# Altium schematic symbol library Resistors.SchLib: 84 symbols
Pins are listed as number, name and electrical type; pins without a type are passive.

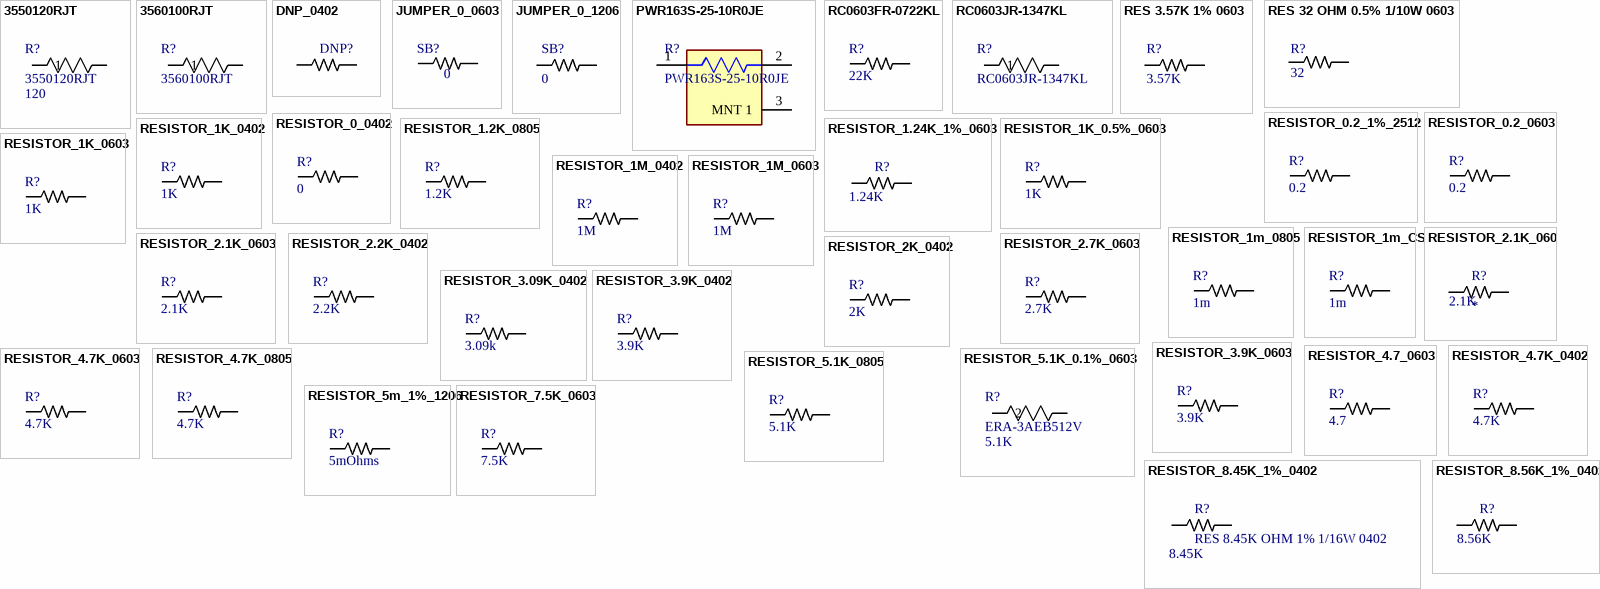
[diagram p0: symbols 3550120RJT to RESISTOR_8.56K_1%_0402]

## 3550120RJT
designator R?  value 120
RES 3550 120R 5%; Mfr_Name: TE Connectivity; Copyright: Copyright (C) 2022 Ultra Librarian. All rights reserved.; Manufacturer_Part_Number: 3550120RJT; RefDes: RefDes; Type: DEV; Supplier 1: Mouser; Supplier Part Number 1: 279-3550120RJT
footprint RESISTOR_0402 (Resistor 0402)
pins: 1, 2

## 3560100RJT
designator R?
RES 35601 100R 6W 5%; Mfr_Name: TE Connectivity; Manufacturer_Part_Number: 3550120RJT; Copyright: Copyright (C) 2022 Ultra Librarian. All rights reserved.; RefDes: RefDes; Type: DEV; Supplier 1: Newark; Supplier Part Number 1: 34AH4272
footprint RES_3550_TEC
pins: 1, 2

## DNP_0402
designator DNP?, comment DNP  (value not drawn)
Do Not Populate 0402
footprint RESISTOR_0402 (Resistor 0402)
pins: 1, 2

## JUMPER_0_0603
designator SB?, comment Value  (Ohms): 0  (hidden comment: 0 Ohm Jumper No Fit)
0 Ohm Jumper No Fit for Solder Bridge; Made By: Robert Pafford; ComponentLink1Description: Digikey; ComponentLink1URL: https://www.digikey.com/en/products/detail/koa-speer-electronics-inc/RK73B1JTTD101J/9844701
footprint RESISTOR_0603 (Resistor 0603)
pins: 1, 2

## JUMPER_0_1206
designator SB?  value 0  (hidden comment: *)
JUMPER 0OHM 1206
footprint RESISTOR_1206
pins: 1, 2

## PWR163S-25-10R0JE
designator R?
RES SMD 10 OHM 5% 25W DPAK; Mfr_Name: Bourns Electronics; Copyright: Copyright (C) 2023 Ultra Librarian. All rights reserved.; Manufacturer_Part_Number: PWR163S-25-10R0JE; Supplier 1: Digi-Key; Supplier Part Number 1: 118-PWR163S-25-10R0JECT-ND
footprint FP-PWR163-MFG
pins: 1, 2, 3 MNT 1

## RC0603FR-0722KL
designator R?, comment Value  (Ohms): 22K  (hidden comment: 3.09k Ohm 1% 1/16W)
RES 22K OHM 1% 1/10W 0603; Tolerance: +/- 1%; Made By: Robert Pafford; Wattage: 1/16W; Supplier 1: Digikey; Supplier Part Number 1: 13-AC0402FR-073K09LCT-ND
footprint RESISTOR_0603 (Resistor 0603)
pins: 1, 2

## RC0603JR-1347KL
designator R?
47kohm 0603 1/10w; Mfr_Name: Yageo; Copyright: Copyright (C) 2024 Ultra Librarian. All rights reserved.; Manufacturer_Part_Number: RC0603JR-1347KL; RefDes: RefDes; Type: DEV; Supplier 1: Mouser; Supplier Part Number 1: 603-RC0603JR-1347KL
footprint RESISTOR_0603 (Resistor 0603)
pins: 1, 2

## RES 3.57K 1% 0603
designator R?, comment 3.57K
3.57 kOhms ±1% 0.1W, 1/10W Chip Resistor 0603 (1608 Metric) Automotive AEC-Q200 Thick Film
footprint CAPACITOR_0603 (CAPACITOR 0603)
pins: 1, 2

## RES 32 OHM 0.5% 1/10W 0603
designator R?, comment value 32  (hidden comment: RN73R1JTTD32R0D25)
32 Ohms ±0.5% 0.125W, 1/8W Chip Resistor 0603 (1608 Metric) Automotive AEC-Q200, Moisture Resistant Thin Film
footprint RESISTOR_0603 (Resistor 0603)
pins: 1, 2

## RESISTOR_0.2_1%_2512
designator R?, comment Value  (Ohms): 0.2  (hidden comment: 0.2 Ohm 1% 2W 2512)
RES 0.2 OHM 1% 2W 2512; Tolerance: +/- 1%; Made By: Dylan Trainor; ComponentLink1Description: Datasheet; ComponentLink1URL: https://www.bourns.com/docs/product-datasheets/CRxxxxx.pdf; Wattage: 2W; Supplier: Stackpole; Digikey Part Numer: CR0603-JW-104ELFTR-ND; Supplier 1: Avnet; Supplier Part Number 1: CSRN2512FKR200
footprint RESISTOR_2512
pins: 1, 2

## RESISTOR_0.2_0603
designator R?, comment Value  (Ohms): 0.2  (hidden comment: 0.2 Ohm 5% 1/8W)
RES 0.2 OHM 5% 1/8W 0603; Tolerance: +/- 5%; Made By: Robert Pafford; ComponentLink1Description: Datasheet; ComponentLink1URL: https://www.bourns.com/docs/product-datasheets/CRxxxxx.pdf; Wattage: 1/8W; Supplier: Digikey; Digikey Part Numer: CR0603-JW-104ELFTR-ND; Supplier 1: Mouser; Supplier Part Number 1: 279-RLP73N1JR20JTD
footprint RESISTOR_0603 (Resistor 0603)
pins: 1, 2

## RESISTOR_0_0402
designator R?, comment Value  (Ohms): 0  (hidden comment: 0 Ohm 1% 1/16W)
RES 0 OHM 1% 1/16W 0402; Tolerance: +/- 1%; Made By: Robert Pafford; Wattage: 1/16W; Supplier 1: Digikey; Supplier Part Number 1: 13-AC0402FR-070RLCT-ND
footprint RESISTOR_0402 (Resistor 0402)
pins: 1, 2

## RESISTOR_1.2K_0805
designator R?, comment Value  (Ohms): 1.2K  (hidden comment: 1.2k Ohm 5% 1/2W)
RES 1.2k OHM 5% 1/2W 0805; Tolerance: +/- 5%; Made By: Robert Pafford; Wattage: 1/2W; Supplier 1: Digi-Key; Supplier Part Number 1: P1.2KADCT-ND
footprint RESISTOR_0805
pins: 1, 2

## RESISTOR_1.24K_1%_0603
designator R?, comment Value (Ohms): 1.24K  (hidden comment: RES 1.24K OHM 1% 1/10W 0603)
1.24 kOhms ±1% 0.1W, 1/10W Chip Resistor 0603 (1608 Metric) Automotive AEC-Q200 Thick Film; Tolerance: +/- 1%; Wattage: 1/10W; Created By: John Ulm; Verified By: *; Supplier 1: Digi-Key; Supplier Part Number 1: RMCF0603FT1K24CT-ND
footprint RESISTOR_0603 (Resistor 0603)
pins: 1, 2

## RESISTOR_1K_0.5%_0603
designator R?, comment Value  (Ohms): 1K  (hidden comment: 1k Ohm 5% 1/10W)
RES 1k OHM 0.5% 1/10W 0603; Tolerance: +/- 0.5%; Made By: Robert Pafford; Wattage: 1/10W; Supplier: Digikey; Digikey Part Numer: CR0603-JW-104ELFTR-ND; Supplier 1: Digi-Key; Supplier Part Number 1: 749-1693-1-ND
footprint RESISTOR_0603 (Resistor 0603)
pins: 1, 2

## RESISTOR_1K_0402
designator R?, comment Value  (Ohms): 1K  (hidden comment: 1k Ohm 1% 1/16W)
RES 1k OHM 1% 1/16W 0402; Tolerance: +/- 1%; Made By: Robert Pafford; Wattage: 1/16W; Supplier: Digikey; Digikey Part Numer: CR0603-JW-104ELFTR-ND; Supplier 1: Digi-Key; Supplier Part Number 1: 13-AC0402FR-131KLCT-ND
footprint RESISTOR_0402 (Resistor 0402)
pins: 1, 2

## RESISTOR_1K_0603
designator R?, comment Value  (Ohms): 1K  (hidden comment: 1k Ohm 5% 1/8W)
RES 1k OHM 5% 1/8W 0603; Tolerance: +/- 5%; Made By: Robert Pafford; ComponentLink1Description: Datasheet; ComponentLink1URL: https://www.bourns.com/docs/product-datasheets/CRxxxxx.pdf; Wattage: 1/8W; Supplier: Digikey; Digikey Part Numer: CR0603-JW-104ELFTR-ND; Supplier 1: Digi-Key; Supplier Part Number 1: 2019-RK73B1JTTD102JCT-ND
footprint RESISTOR_0603 (Resistor 0603)
pins: 1, 2

## RESISTOR_1M_0402
designator R?, comment Value  (Ohms): 1M  (hidden comment: 1M Ohm 1% 1/16W)
RES 1M OHM 1% 1/16W 0402; Tolerance: +/- 1%; Made By: Robert Pafford; Wattage: 1/16W; Supplier 1: Digikey; Supplier Part Number 1: YAG3450CT-ND
footprint RESISTOR_0402 (Resistor 0402)
pins: 1, 2

## RESISTOR_1M_0603
designator R?, comment 1M
RES 1M OHM 1/8W 0603; Tolerance: +/- 5%; Made By: Robert Pafford; ComponentLink1Description: Datasheet; ComponentLink1URL: https://www.bourns.com/docs/product-datasheets/CRxxxxx.pdf; Wattage: 1/8W; Supplier: Digikey; Digikey Part Numer: CR0603-JW-104ELFTR-ND; Supplier 1: Digi-Key; Supplier Part Number 1: RMCF0603JT1M00CT-ND; Value  (Ohms): 1M
footprint RESISTOR_0603 (Resistor 0603)
pins: 1, 2

## RESISTOR_1m_0805
designator R?, comment Value  (Ohms): 1m  (hidden comment: 1.2k Ohm 5% 1/8W)
RES 1m OHM 1% 1W 0805; Tolerance: +/- 1%; Made By: Flip B; ComponentLink1Description: Datasheet; ComponentLink1URL: https://www.bourns.com/docs/product-datasheets/CRxxxxx.pdf; Wattage: 1W; Supplier 1: Digi-Key; Supplier Part Number 1: 738-CSSH0805FT1L00CT-ND
footprint RESISTOR_0805
pins: 1, 2

## RESISTOR_1m_CS
designator R?, comment Value  (Ohms): 1m  (hidden comment: 1m Ohm 5% 8W)
RES 1m OHM 1% 8W Current Sense; Tolerance: +/- 1%; Made By: Flip B; ComponentLink1Description: Datasheet; ComponentLink1URL: https://www.bourns.com/docs/product-datasheets/css2h-3920.pdf; Wattage: 8W; Supplier 1: Digi-Key; Supplier Part Number 1: CSS2H-3920R-1L00FCT-ND
footprint RES_CSS2H-3920 (Current Sense Resistor 1mOhm 8W)
pins: 1, 2

## RESISTOR_2.1K_060
designator R?
RES SMD 2.1K OHM 0.1% 1/8W 0805; Tolerance: +/- .1%; Supplier 1: Digi-Key; Supplier Part Number 1: YAG1852CT-ND; Created By: John Ulm; Wattage: 1/8 W
footprint RESISTOR_0603 (Resistor 0603)
pins: 1, 2
text: 2.1K

## RESISTOR_2.1K_0603
designator R?, comment Value  (Ohms): 2.1K  (hidden comment: 2.1k Ohm 5% 1/8W)
RES 2.1k OHM 5% 1/8W 0603; Tolerance: +/- 5%; Made By: Robert Pafford; ComponentLink1Description: Datasheet; ComponentLink1URL: https://www.bourns.com/docs/product-datasheets/CRxxxxx.pdf; Wattage: 1/8W; Supplier: Digikey; Digikey Part Numer: CR0603-JW-104ELFTR-ND; Supplier 1: Digi-Key; Supplier Part Number 1: YAG1852CT-ND
footprint RESISTOR_0603 (Resistor 0603)
pins: 1, 2

## RESISTOR_2.2K_0402
designator R?, comment Value  (Ohms): 2.2K  (hidden comment: 2.2k Ohm 1% 1/16W)
RES 2.2K OHM 1% 1/16W 0402; Tolerance: +/- 1%; Made By: Megan McCabe; Wattage: 1/16W; Supplier 1: Digikey; Supplier Part Number 1: 311-2.20KLRCT-ND
footprint RESISTOR_0402 (Resistor 0402)
pins: 1, 2

## RESISTOR_2.7K_0603
designator R?, comment Value  (Ohms): 2.7K  (hidden comment: 2.7K Ohm 1% 1/10W)
RES 2.7k OHM 1% 1/10W 0603; Tolerance: +/- 1%; Made By: Robert Pafford; Wattage: 1/10W; Supplier 1: Digi-Key; Supplier Part Number 1: 311-2.70KHRCT-ND
footprint RESISTOR_0603 (Resistor 0603)
pins: 1, 2

## RESISTOR_2K_0402
designator R?, comment Value  (Ohms): 2K  (hidden comment: 2k Ohm 1% 1/16W)
RES 2k OHM 1% 1/16W 0402; Tolerance: +/- 1%; Made By: Flip B; Wattage: 1/16W; Supplier 1: Digi-Key; Supplier Part Number 1: 311-2KLRCT-ND
footprint RESISTOR_0402 (Resistor 0402)
pins: 1, 2

## RESISTOR_3.09K_0402
designator R?, comment Value  (Ohms): 3.09k  (hidden comment: 3.09k Ohm 1% 1/16W)
RES 3.09k OHM 1% 1/16W 0402; Tolerance: +/- 1%; Made By: Robert Pafford; Wattage: 1/16W; Supplier 1: Digikey; Supplier Part Number 1: 13-AC0402FR-073K09LCT-ND
footprint RESISTOR_0402 (Resistor 0402)
pins: 1, 2

## RESISTOR_3.9K_0402
designator R?, comment Value  (Ohms): 3.9K  (hidden comment: 3.9k Ohm 1% 1/16W)
RES 3.9k OHM 1% 1/16W 0402; Tolerance: +/- 1%; Made By: Robert Pafford; Wattage: 1/16W; Supplier 1: Digikey; Supplier Part Number 1: YAG3484CT-ND
footprint RESISTOR_0402 (Resistor 0402)
pins: 1, 2

## RESISTOR_3.9K_0603
designator R?, comment Value  (Ohms): 3.9K  (hidden comment: 3.9k Ohm 5% 1/10W)
RES 3.9k OHM 1% 1/10W 0603; Tolerance: +/- 1%; Made By: Robert Pafford; Wattage: 1/10W; Supplier 1: Digi-Key; Supplier Part Number 1: P3.90KHCT-ND
footprint RESISTOR_0603 (Resistor 0603)
pins: 1, 2

## RESISTOR_4.7_0603
designator R?, comment Value  (Ohms): 4.7  (hidden comment: 4.7 Ohm 5% 1/8W)
RES 4.7 OHM 5% 1/8W 0603; Tolerance: +/- 5%; Made By: Robert Pafford; Wattage: 1/8W; Supplier: Digikey; Digikey Part Numer: CR0603-JW-104ELFTR-ND; Supplier 1: Digi-Key; Supplier Part Number 1: 2019-RK73B1JTTD4R7JCT-ND
footprint RESISTOR_0603 (Resistor 0603)
pins: 1, 2

## RESISTOR_4.7K_0402
designator R?, comment Value  (Ohms): 4.7K  (hidden comment: 4.7k Ohm 1% 1/16W)
RES 4.7k OHM 1% 1/16W 0402; Tolerance: +/- 1%; Made By: Robert Pafford; Wattage: 1/16W; Supplier 1: Digi-Key; Supplier Part Number 1: YAG3497CT-ND
footprint RESISTOR_0402 (Resistor 0402)
pins: 1, 2

## RESISTOR_4.7K_0603
designator R?, comment Value  (Ohms): 4.7K  (hidden comment: 4.7k Ohm 5% 1/10W)
RES 4.7k OHM 5% 1/10W 0603; Tolerance: +/- 5%; Made By: Robert Pafford; Wattage: 1/10W; Supplier: Digikey; Digikey Part Numer: CR0603-JW-104ELFTR-ND; Supplier 1: Digi-Key; Supplier Part Number 1: RMCF0603JT4K70CT-ND
footprint RESISTOR_0603 (Resistor 0603)
pins: 1, 2

## RESISTOR_4.7K_0805
designator R?, comment Value  (Ohms): 4.7K  (hidden comment: 4.7k Ohm 5% 1/8W)
RES 4.7k OHM 5% 1/8W 0805; Tolerance: +/- 5%; Made By: Robert Pafford; ComponentLink1Description: Datasheet; Wattage: 1/8W; Supplier: Digikey; Digikey Part Numer: CR0603-JW-104ELFTR-ND; Supplier 1: Mouser; Supplier Part Number 1: 652-CR0603-JW-104ELF
footprint RESISTOR_0805
pins: 1, 2

## RESISTOR_5.1K_0.1%_0603
designator R?, comment ERA-3AEB512V  value 5.1K
5.1 kOhms ±0.1% 0.1W, 1/10W Chip Resistor 0603 (1608 Metric) Automotive AEC-Q200 Thin Film; Mfr_Name: Panasonic; Manufacturer_Part_Number: ERA-3AEB512V_2; Copyright: Copyright (C) 2023 Ultra Librarian. All rights reserved.; RefDes: RefDes; Type: DEV; Supplier 1: Mouser; Supplier Part Number 1: 667-ERA-3AEB512V
footprint RC0603N_PAN
pins: 1, 2

## RESISTOR_5.1K_0805
designator R?, comment Value  (Ohms): 5.1K  (hidden comment: 5.1k Ohm 1% 1/8W)
RES 5.1k OHM 1% 1/8W 0805; Tolerance: +/- 5%; Made By: Dylan Trainor; ComponentLink1Description: Datasheet; ComponentLink1URL: https://www.bourns.com/docs/product-datasheets/CRxxxxx.pdf; Wattage: 1/8W; Supplier: Digikey; Digikey Part Numer: CR0603-JW-104ELFTR-ND; Supplier 1: Newark; Supplier Part Number 1: 53W4863
footprint RESISTOR_0805
pins: 1, 2

## RESISTOR_5m_1%_1206
designator R?, comment Value  (Ohms): 5mOhms  (hidden comment: 0.005 OHM 1% 1W)
5 mOhms ±1% 1W Chip Resistor 1206 (3216 Metric) Anti-Sulfur, Current Sense, Flame Retardant Coating, Moisture Resistant, Safety Metal Foil; Tolerance: +/- 1%; Made By: Andrew Lin; ComponentLink1Description: Datasheet; ComponentLink1URL: https://www.bourns.com/docs/product-datasheets/CRxxxxx.pdf; Wattage: 1W; Supplier: Digikey; Digikey Part Numer: CR0603-JW-104ELFTR-ND; Supplier 1: Digi-Key; Supplier Part Number 1: 4463-D1WEL1206MR005F-T5CT-ND
footprint RESISTOR_0603 (Resistor 0603)
pins: 1, 2

## RESISTOR_7.5K_0603
designator R?, comment Value  (Ohms): 7.5K  (hidden comment: 7.5k Ohm 5% 1/10W)
RES 7.5k OHM 5% 1/10W 0603; Tolerance: +/- 5%; Wattage: 1/8W; Made By: Dylan Trainor; ComponentLink1Description: Datasheet; ComponentLink1URL: https://www.bourns.com/docs/product-datasheets/CRxxxxx.pdf; Supplier: Digikey; Digikey Part Numer: CR0603-JW-104ELFTR-ND; Supplier 1: Arrow Electronics; Supplier Part Number 1: CRCW06037K50JNEA
footprint RESISTOR_0603 (Resistor 0603)
pins: 1, 2

## RESISTOR_8.45K_1%_0402
designator R?, comment RES 8.45K OHM 1% 1/16W 0402  Value (Ohms): 8.45K
Tolerance: +/- 1%; Made By: John Ulm; Supplier 1: Digi-Key; Supplier Part Number 1: YAG3254CT-ND; Supplier 2: Digi-Key; Supplier Part Number 2: YAG3254DKR-ND; Supplier 3: Digi-Key; Supplier Part Number 3: YAG3254TR-ND; Wattage: 1/16W
footprint RESISTOR_0402 (Resistor 0402)
pins: 1, 2

## RESISTOR_8.56K_1%_0402
designator R?, comment Value (Ohms): 8.56K  (hidden comment: RES 8.56K OHM 1% 1/16W 0402)
8.56 kOhms ±1% 0.063W, 1/16W Chip Resistor 0402 (1005 Metric) Automotive AEC-Q200, Moisture Resistant Metal Film; Tolerance: +/- 1%; Made By: John Ulm; Supplier 1: Digi-Key; Supplier Part Number 1: 2019-RN73H1ETTP8561F50CT-ND; Wattage: 1/16W; Verified By: *
footprint RESISTOR_0402 (Resistor 0402)
pins: 1, 2

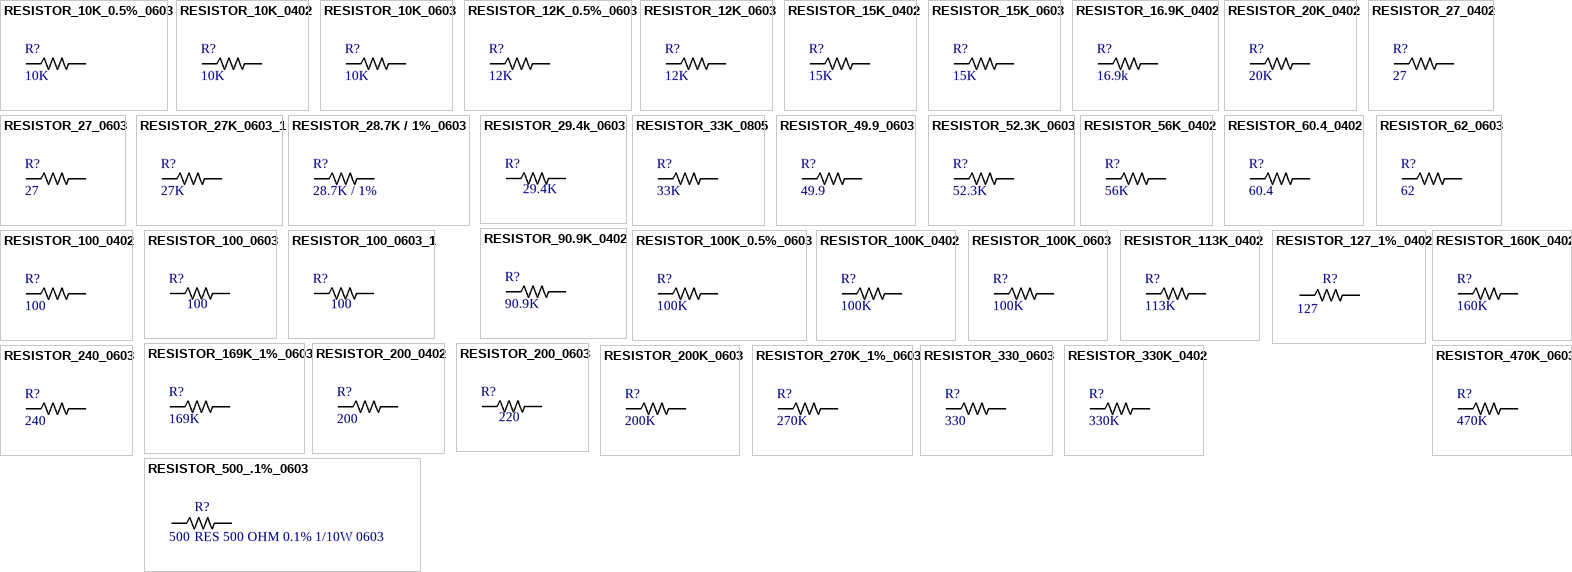
[diagram p1: symbols RESISTOR_10K_0.5%_0603 to RESISTOR_500_.1%_0603]

## RESISTOR_10K_0.5%_0603
designator R?, comment Value  (Ohms): 10K  (hidden comment: 10k Ohm 0.5% 1/10W)
RES 10k OHM 0.5% 1/10W 0603; Tolerance: +/- 0.5%; Made By: Robert Pafford; Wattage: 1/10W; Supplier: Digikey; Digikey Part Numer: CR0603-JW-104ELFTR-ND; Supplier 1: Digi-Key; Supplier Part Number 1: 749-1695-1-ND
footprint RESISTOR_0603 (Resistor 0603)
pins: 1, 2

## RESISTOR_10K_0402
designator R?, comment Value  (Ohms): 10K  (hidden comment: 10k Ohm 1% 1/16W)
RES 10k OHM 1% 1/16W 0402; Tolerance: +/- 1%; Made By: Robert Pafford; Wattage: 1/16W; Supplier: Digikey; Digikey Part Numer: CR0603-JW-104ELFTR-ND; Supplier 1: Digi-Key; Supplier Part Number 1: YAG3436CT-ND
footprint RESISTOR_0402 (Resistor 0402)
pins: 1, 2

## RESISTOR_10K_0603
designator R?, comment Value  (Ohms): 10K  (hidden comment: 10k Ohm 5% 1/10W)
RES 10k OHM 5% 1/10W 0603; Tolerance: +/- 5%; Wattage: 1/8W; Made By: Robert Pafford; ComponentLink1Description: Datasheet; ComponentLink1URL: https://www.bourns.com/docs/product-datasheets/CRxxxxx.pdf; Supplier: Digikey; Digikey Part Numer: CR0603-JW-104ELFTR-ND; Supplier 1: Digi-Key; Supplier Part Number 1: 2019-RK73B1JTTD103JCT-ND
footprint RESISTOR_0603 (Resistor 0603)
pins: 1, 2

## RESISTOR_12K_0.5%_0603
designator R?, comment Value  (Ohms): 12K  (hidden comment: 12k Ohm 0.5% 1/10W)
RES 12k OHM 0.5% 1/10W 0603; Tolerance: +/- 0.5%; Wattage: 1/8W; Made By: John Ulm; ComponentLink1Description: Datasheet; ComponentLink1URL: https://www.bourns.com/docs/product-datasheets/CRxxxxx.pdf; Supplier: Digikey; Digikey Part Numer: CR0603-JW-104ELFTR-ND; Supplier 1: Digi-Key; Supplier Part Number 1: 311-2415-1-ND
footprint RESISTOR_0603 (Resistor 0603)
pins: 1, 2

## RESISTOR_12K_0603
designator R?, comment Value  (Ohms): 12K  (hidden comment: 12k Ohm 5% 1/10W)
RES 12k OHM 5% 1/10W 0603; Tolerance: +/- 5%; Wattage: 1/8W; Made By: Robert Pafford; ComponentLink1Description: Datasheet; ComponentLink1URL: https://www.bourns.com/docs/product-datasheets/CRxxxxx.pdf; Supplier: Digikey; Digikey Part Numer: CR0603-JW-104ELFTR-ND; Supplier 1: Avnet; Supplier Part Number 1: RMCF0603JT12K0
footprint RESISTOR_0603 (Resistor 0603)
pins: 1, 2

## RESISTOR_15K_0402
designator R?, comment Value  (Ohms): 15K  (hidden comment: 15k Ohm 1% 1/16W)
RES 15k OHM 1% 1/16W 0402; Tolerance: +/- 1%; Made By: Robert Pafford; Wattage: 1/16W; Supplier 1: Digikey; Supplier Part Number 1: 311-15.0KLRCT-ND
footprint RESISTOR_0402 (Resistor 0402)
pins: 1, 2

## RESISTOR_15K_0603
designator R?, comment Value  (Ohms): 15K  (hidden comment: 15k Ohm 5% 1/10W)
RES 15k OHM 5% 1/10W 0603; Tolerance: +/- 5%; Wattage: 1/8W; Made By: Dylan Trainor; ComponentLink1Description: Datasheet; ComponentLink1URL: https://www.bourns.com/docs/product-datasheets/CRxxxxx.pdf; Supplier: Digikey; Digikey Part Numer: CR0603-JW-104ELFTR-ND; Supplier 1: Avnet; Supplier Part Number 1: RMCF0603JG15K0
footprint RESISTOR_0603 (Resistor 0603)
pins: 1, 2

## RESISTOR_16.9K_0402
designator R?, comment Value  (Ohms): 16.9k  (hidden comment: 16.9k Ohm 1% 1/16W)
16.9 kOhms ±1% 0.063W, 1/16W Chip Resistor 0402 (1005 Metric) Moisture Resistant Thick Film; Tolerance: +/- 1%; Made By: Andrew Lin; Wattage: 1/16W; Supplier 1: Future Electronics; Supplier Part Number 1: 5791231
footprint RESISTOR_0402 (Resistor 0402)
pins: 1, 2

## RESISTOR_20K_0402
designator R?, comment Value  (Ohms): 20K  (hidden comment: 20k Ohm 1% 1/16W)
RES 20k OHM 1% 1/16W 0402; Tolerance: +/- 1%; Made By: Robert Pafford; Wattage: 1/16W; Supplier 1: Digikey; Supplier Part Number 1: YAG3454CT-ND
footprint RESISTOR_0402 (Resistor 0402)
pins: 1, 2

## RESISTOR_27_0402
designator R?, comment Value  (Ohms): 27  (hidden comment: 27 Ohm 1% 1/16W)
RES 27 OHM 1% 1/16W 0402; Tolerance: +/- 1%; Made By: Robert Pafford; Wattage: 1/16W; Supplier: Digikey; Digikey Part Numer: CR0603-JW-104ELFTR-ND; Supplier 1: Digi-Key; Supplier Part Number 1: YAG5278DKR-ND
footprint RESISTOR_0402 (Resistor 0402)
pins: 1, 2

## RESISTOR_27_0603
designator R?, comment Value  (Ohms): 27  (hidden comment: 27 Ohm 5% 1/8W)
RES 27 OHM 5% 1/8W 0603; Tolerance: +/- 5%; Made By: Robert Pafford; ComponentLink1Description: Datasheet; ComponentLink1URL: https://www.bourns.com/docs/product-datasheets/CRxxxxx.pdf; Wattage: 1/8W; Supplier: Digikey; Digikey Part Numer: CR0603-JW-104ELFTR-ND; Supplier 1: Digi-Key; Supplier Part Number 1: 2019-RK73B1JTTD270JCT-ND
footprint RESISTOR_0603 (Resistor 0603)
pins: 1, 2

## RESISTOR_27K_0603_1
designator R?, comment Value  (Ohms): 27K  (hidden comment: 27k Ohm 5% 1/8W)
RES SMD 27K OHM 5% 1/10W 0603; Tolerance: +/- 5%; Made By: John Ulm; ComponentLink1Description: Datasheet; ComponentLink1URL: https://www.bourns.com/docs/product-datasheets/CRxxxxx.pdf; Wattage: 1/10W; Supplier: Digikey; Digikey Part Numer: ERJ-3GEYJ273V; Supplier 1: Digikey; Supplier Part Number 1: P27KGCT-ND
footprint RESISTOR_0603 (Resistor 0603)
pins: 1, 2

## RESISTOR_28.7K / 1%_0603
designator R?, comment Value  (Ohms): 28.7K / 1%  (hidden comment: K / 1%)
RES 28.7K OHM 1% 1/8W 0603; Tolerance: +/- 5%; Made By: Robert Pafford; ComponentLink1Description: Datasheet; ComponentLink1URL: https://www.bourns.com/docs/product-datasheets/CRxxxxx.pdf; Wattage: 1/8W; Supplier: Digikey; Digikey Part Numer: CR0603-JW-104ELFTR-ND; Supplier 1: Digi-Key; Supplier Part Number 1: 541-28.7KHCT-ND
footprint RESISTOR_0603 (Resistor 0603)
pins: 1, 2

## RESISTOR_29.4k_0603
designator R?, comment Value  (Ohms): 29.4K  (hidden comment: 29.4k Ohm 1% 1/10W)
RES 29.4k OHM 1% 1/10W 0603; Tolerance: +/- 1%; Made By: Flip B; ComponentLink1Description: Digikey; ComponentLink1URL: https://www.yageo.com/upload/media/product/productsearch/datasheet/rchip/PYu-RC_Group_51_RoHS_L_11.pdf; Wattage: 1/10W; Supplier 1: Digi-Key; Supplier Part Number 1: 311-29.4KHRCT-ND
footprint RESISTOR_0603 (Resistor 0603)
pins: 1, 2

## RESISTOR_33K_0805
designator R?, comment Value  (Ohms): 33K  (hidden comment: 33k Ohm 5% 1/8W)
RES 33k OHM 5% 1/8W 0805; Tolerance: +/- 5%; Made By: Dylan Trainor; ComponentLink1Description: Datasheet; ComponentLink1URL: https://www.bourns.com/docs/product-datasheets/CRxxxxx.pdf; Wattage: 1/8W; Supplier: Digikey; Digikey Part Numer: CR0603-JW-104ELFTR-ND; Supplier 1: Newark; Supplier Part Number 1: 65T8819
footprint RESISTOR_0805
pins: 1, 2

## RESISTOR_49.9_0603
designator R?, comment Value  (Ohms): 49.9  (hidden comment: 49.9 Ohm 1% 1/8W)
RES 49.9 OHM 1% 1/8W 0603; Tolerance: +/- 1%; Made By: John S; ComponentLink1Description: Datasheet; ComponentLink1URL: https://www.bourns.com/docs/product-datasheets/CRxxxxx.pdf; Wattage: 1/8W; Supplier: Digikey; Supplier 1: Digi-Key; Supplier Part Number 1: RNCP0603FTD49R9CT-ND
footprint RESISTOR_0603 (Resistor 0603)
pins: 1, 2

## RESISTOR_52.3K_0603
designator R?, comment Value  (Ohms): 52.3K  (hidden comment: 52.3k Ohm 1% 1/10W)
RES 52.3K OHM 1% 1/10W 0603; Tolerance: +/- 1%; Made By: Megan M; ComponentLink1Description: Datasheet; ComponentLink1URL: https://www.bourns.com/docs/product-datasheets/CRxxxxx.pdf; Wattage: 1/10W; Supplier: Digikey; Digikey Part Numer: CR0603-JW-104ELFTR-ND; Supplier 1: Digi-Key; Supplier Part Number 1: CR0603-JW-104ELFCT-ND
footprint RESISTOR_0603 (Resistor 0603)
pins: 1, 2

## RESISTOR_56K_0402
designator R?, comment Value  (Ohms): 56K  (hidden comment: 56k Ohm 1% 1/16W)
RES 56k OHM 1% 1/16W 0402; Tolerance: +/- 1%; Made By: Robert Pafford; Wattage: 1/16W; Supplier 1: Digi-Key; Supplier Part Number 1: YAG3501CT-ND
footprint RESISTOR_0402 (Resistor 0402)
pins: 1, 2

## RESISTOR_60.4_0402
designator R?, comment Value  (Ohms): 60.4  (hidden comment: 60.4 Ohm 1% 1/16W)
RES 60.4 OHM 1% 1/16W 0402; Tolerance: +/- 1%; Made By: Robert Pafford; Wattage: 1/16W; Supplier: Digikey; Digikey Part Numer: CR0603-JW-104ELFTR-ND; Supplier 1: Digi-Key; Supplier Part Number 1: 13-AC0402FR-0760R4LCT-ND
footprint RESISTOR_0402 (Resistor 0402)
pins: 1, 2

## RESISTOR_62_0603
designator R?, comment Value  (Ohms): 62  (hidden comment: 62 Ohm 1% 1/4W)
RES SMD 62 OHM 1% 1/4W 0603; Tolerance: +/- 1%; Made By: Robert Pafford; ComponentLink1Description: Datasheet; ComponentLink1URL: https://www.bourns.com/docs/product-datasheets/CRxxxxx.pdf; Wattage: 1/4W; Supplier: Digikey; Digikey Part Numer: CR0603-JW-104ELFTR-ND; Supplier 1: Digi-Key; Supplier Part Number 1: 541-RCS060362R0FKEACT-ND
footprint RESISTOR_0603 (Resistor 0603)
pins: 1, 2

## RESISTOR_90.9K_0402
designator R?, comment Value  (Ohms): 90.9K  (hidden comment: 90.9k Ohm 1% 1/16W)
RES 90.9k OHM 1% 1/16W 0402; Tolerance: +/- 1%; Made By: Robert Pafford; Wattage: 1/16W; Supplier 1: Digikey; Supplier Part Number 1: YAG5314CT-ND
footprint RESISTOR_0402 (Resistor 0402)
pins: 1, 2

## RESISTOR_100_0402
designator R?, comment Value  (Ohms): 100  (hidden comment: 100 Ohm 5% 1/16W)
RES 100 OHM 5% 1/16W 0402; Tolerance: +/- 5%; Made By: Flip B; Wattage: 1/16W; Supplier: Digikey; Digikey Part Numer: 311-100JRTR-ND; Supplier 1: Digi-Key; Supplier Part Number 1: 311-100JRCT-ND
footprint RESISTOR_0402 (Resistor 0402)
pins: 1, 2

## RESISTOR_100_0603
designator R?, comment Value  (Ohms): 100  (hidden comment: 100 Ohm 5% 1/8W)
RES 100 OHM 5% 1/8W 0603; Tolerance: +/- 5%; Made By: Flip B; ComponentLink1Description: Digikey; ComponentLink1URL: https://www.digikey.com/en/products/detail/koa-speer-electronics-inc/RK73B1JTTD101J/9844701; Supplier 1: Digi-Key; Supplier Part Number 1: 2019-RK73B1JTTD101JCT-ND; Wattage: 1/8W
footprint RESISTOR_0603 (Resistor 0603)
pins: 1, 2

## RESISTOR_100_0603_1
designator R?, comment Value  (Ohms): 100  (hidden comment: 100 Ohm 5% 1/8W)
RES 100 OHM 5% 1/8W 0603; Tolerance: +/- 5%; Made By: Flip B; ComponentLink1Description: Digikey; ComponentLink1URL: https://www.digikey.com/en/products/detail/koa-speer-electronics-inc/RK73B1JTTD101J/9844701; Wattage: 1/8W; Supplier 1: Mouser; Supplier Part Number 1: 660-RK73B1JTTD101J
footprint RESISTOR_0603 (Resistor 0603)
pins: 1, 2

## RESISTOR_100K_0.5%_0603
designator R?, comment Value  (Ohms): 100K  (hidden comment: 100k Ohm 0.5% 1/10W)
RES 100k OHM 0.5% 1/10W 0603; Tolerance: +/- 0.5%; Made By: John Ulm; ComponentLink1Description: Datasheet; ComponentLink1URL: https://www.bourns.com/docs/product-datasheets/CRxxxxx.pdf; Wattage: 1/10W; Supplier: Digikey; Digikey Part Numer: CR0603-JW-104ELFTR-ND; Supplier 1: Digi-Key; Supplier Part Number 1: 311-2395-1-ND
footprint RESISTOR_0603 (Resistor 0603)
pins: 1, 2

## RESISTOR_100K_0402
designator R?, comment Value  (Ohms): 100K  (hidden comment: 100k Ohm 1% 1/16W)
RES 100k OHM 1% 1/16W 0402; Tolerance: +/- 1%; Made By: Robert Pafford; Wattage: 1/16W; Supplier 1: Digikey; Supplier Part Number 1: YAG3434CT-ND
footprint RESISTOR_0402 (Resistor 0402)
pins: 1, 2

## RESISTOR_100K_0603
designator R?, comment Value  (Ohms): 100K  (hidden comment: 100k Ohm 5% 1/8W)
RES 100k OHM 5% 1/10W 0603; Tolerance: +/- 5%; Made By: Flip B; ComponentLink1Description: Datasheet; ComponentLink1URL: https://www.bourns.com/docs/product-datasheets/CRxxxxx.pdf; Wattage: 1/10W; Supplier: Digikey; Digikey Part Numer: CR0603-JW-104ELFTR-ND; Supplier 1: Digi-Key; Supplier Part Number 1: CR0603-JW-104ELFCT-ND
footprint RESISTOR_0603 (Resistor 0603)
pins: 1, 2

## RESISTOR_113K_0402
designator R?, comment Value  (Ohms): 113K  (hidden comment: 113k Ohm 1% 1/16W)
RES 113k OHM 1% 1/16W 0402; Tolerance: +/- 1%; Made By: Robert Pafford; Wattage: 1/16W; Supplier 1: Digikey; Supplier Part Number 1: YAG2368CT-ND
footprint RESISTOR_0402 (Resistor 0402)
pins: 1, 2

## RESISTOR_127_1%_0402
designator R?, comment Value (Ohms): 127  (hidden comment: 127 Ohms ±1% 0.063W, 1/16W Chip Resistor 0402 (1005 Metric) Moisture Resistant Thick Film)
Tolerance: +/- 1%; Made By: John Ulm; Wattage: 1/16W; Supplier 1: Digi-Key; Supplier Part Number 1: YAG2963CT-ND
footprint RESISTOR_0402 (Resistor 0402)
pins: 1, 2

## RESISTOR_160K_0402
designator R?, comment Value  (Ohms): 160K  (hidden comment: 160k Ohm 1% 1/16W)
RES 160k OHM 1% 1/16W 0402; Tolerance: +/- 1%; Made By: Robert Pafford; Wattage: 1/16W; Supplier 1: Digikey; Supplier Part Number 1: YAG2996CT-ND
footprint RESISTOR_0402 (Resistor 0402)
pins: 1, 2

## RESISTOR_169K_1%_0603
designator R?, comment Value  (Ohms): 169K  (hidden comment: 169K OHM 1% 1/3W)
169 kOhms ±1% 0.333W, 1/3W Chip Resistor 0603 (1608 Metric) Automotive AEC-Q200, Pulse Withstanding Thick Film; Tolerance: +/- 1%; Wattage: 1/10W; Made By: Andrew Lin; ComponentLink1Description: Datasheet; ComponentLink1URL: https://www.bourns.com/docs/product-datasheets/CRxxxxx.pdf; Supplier: Digikey; Digikey Part Numer: CR0603-JW-104ELFTR-ND; Supplier 1: Digi-Key; Supplier Part Number 1: CRCW0603169KFKEAHP-ND
footprint RESISTOR_0603 (Resistor 0603)
pins: 1, 2

## RESISTOR_200_0402
designator R?, comment Value  (Ohms): 200  (hidden comment: 200 Ohm 1% 1/16W)
RES 200 OHM 1% 1/16W 0402; Tolerance: +/- 1%; Made By: Robert Pafford; Wattage: 1/16W; Supplier: Digikey; Digikey Part Numer: CR0603-JW-104ELFTR-ND; Supplier 1: Digi-Key; Supplier Part Number 1: YAG3453CT-ND
footprint RESISTOR_0402 (Resistor 0402)
pins: 1, 2

## RESISTOR_200_0603
designator R?, comment Value  (Ohms): 220  (hidden comment: 220 Ohm 5% 1/8W)
RES 220 OHM 5% 1/8W 0603; Tolerance: +/- 5%; Made By: John S; ComponentLink1Description: Digikey; ComponentLink1URL: https://www.digikey.com/en/products/detail/koa-speer-electronics-inc/RK73B1JTTD101J/9844701; Wattage: 1/8W; Supplier 1: Digi-Key; Supplier Part Number 1: 2019-RK73B1JTTD221JCT-ND
footprint RESISTOR_0603 (Resistor 0603)
pins: 1, 2

## RESISTOR_200K_0603
designator R?, comment Value  (Ohms): 200K  (hidden comment: 200k Ohm 1% 1/10W)
RES 200k OHM 1% 1/10W 0603; Tolerance: +/- 1%; Made By: Robert P; Wattage: 1/10W; Supplier 1: Digikey; Supplier Part Number 1: 13-RC0603FR-13200KLCT-ND
footprint RESISTOR_0603 (Resistor 0603)
pins: 1, 2

## RESISTOR_240_0603
designator R?, comment Value  (Ohms): 240  (hidden comment: RES SMD 240 OHM 5% 1/10W 0603)
Tolerance: +/- 5%; Made By: John Ulm; ComponentLink1Description: Datasheet; ComponentLink1URL: https://www.bourns.com/docs/product-datasheets/CRxxxxx.pdf; Wattage: 1/10W; Supplier: Digikey; Digikey Part Numer: ERJ-3GEYJ241V; Supplier 1: Digikey; Supplier Part Number 1: P240GCT-ND
footprint RESISTOR_0603 (Resistor 0603)
pins: 1, 2

## RESISTOR_270K_1%_0603
designator R?, comment Value  (Ohms): 270K  (hidden comment: 270k Ohm 1% 1/10W)
RES 270k OHM 1% 1/10W 0603; Tolerance: +/- 1%; Made By: Andrew Lin; ComponentLink1Description: Datasheet; ComponentLink1URL: https://www.bourns.com/docs/product-datasheets/CRxxxxx.pdf; Wattage: 1/10W; Supplier: Digikey; Digikey Part Numer: CR0603-JW-104ELFTR-ND; Supplier 1: Mouser; Supplier Part Number 1: 71-CRCW0603-270K-E3
footprint RESISTOR_0603 (Resistor 0603)
pins: 1, 2

## RESISTOR_330_0603
designator R?, comment Value  (Ohms): 330  (hidden comment: 330 Ohm 1% 1/10W)
RES 330 OHM 1% 1/10W 0603; Tolerance: +/- 1%; Made By: Robert Pafford; Wattage: 1/10W; Supplier 1: Digi-Key; Supplier Part Number 1: P330HCT-ND
footprint RESISTOR_0603 (Resistor 0603)
pins: 1, 2

## RESISTOR_330K_0402
designator R?, comment Value  (Ohms): 330K  (hidden comment: 330k Ohm 1% 1/16W)
RES 330k OHM 1% 1/16W 0402; Tolerance: +/- 1%; Made By: Robert Pafford; Wattage: 1/16W; Supplier 1: Mouser; Supplier Part Number 1: 603-RC0402FR-07330KL; Supplier 2: Digikey; Supplier Part Number 2: 311-330KLRCT-ND
footprint RESISTOR_0402 (Resistor 0402)
pins: 1, 2

## RESISTOR_470K_0603
designator R?, comment Value  (Ohms): 470K  (hidden comment: 470k Ohm 5% 1/10W)
RES 470k OHM 5% 1/10W 0603; Tolerance: +/- 5%; Made By: Robert P; ComponentLink1Description: Datasheet; ComponentLink1URL: https://www.bourns.com/docs/product-datasheets/CRxxxxx.pdf; Wattage: 1/10W; Supplier 1: Digi-Key; Supplier Part Number 1: RMCF0603JT470KCT-ND
footprint RESISTOR_0603 (Resistor 0603)
pins: 1, 2

## RESISTOR_500_.1%_0603
designator R?, comment RES 500 OHM 0.1% 1/10W 0603  Value (Ohms): 500
Tolerance: +/- .1%; Created By: John Ulm; Wattage: 1/10W; Supplier 1: Digi-Key; Supplier Part Number 1: 13-RT0603BRC07500RLCT-ND
footprint CAPACITOR_0603 (CAPACITOR 0603)
pins: 1, 2

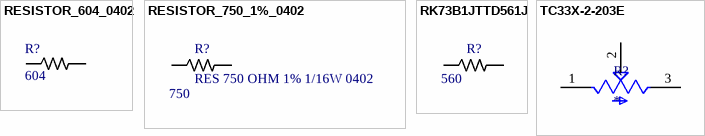
[diagram p2: symbols RESISTOR_604_0402 to TC33X-2-203E]

## RESISTOR_604_0402
designator R?, comment Value  (Ohms): 604  (hidden comment: 604 Ohm 1% 1/16W)
RES 604 OHM 1% 1/16W 0402; Tolerance: +/- 1%; Made By: Robert Pafford; Wattage: 1/16W; Supplier: Digikey; Digikey Part Numer: CR0603-JW-104ELFTR-ND; Supplier 1: Digi-Key; Supplier Part Number 1: 13-AC0402FR-07604RLCT-ND
footprint RESISTOR_0402 (Resistor 0402)
pins: 1, 2

## RESISTOR_750_1%_0402
designator R?, comment RES 750 OHM 1% 1/16W 0402  Value (Ohms): 750
Tolerance: +/- 1%; Created By: John Ulm; Wattage: 1/16W; Supplier 1: Digi-Key; Supplier Part Number 1: 311-750LRCT-ND
footprint RESISTOR_0402 (Resistor 0402)
pins: 1, 2

## RK73B1JTTD561J
designator R?, comment Value (Ohms): 560  (hidden comment: 560 Ohm 5% 1/8W 0603)
RES 560 OHM 5% 1/8W 0603; Tolerance: +/- 5%; Made By: Gage Lillie; Wattage: 1/8 W; Supplier: KOA Speer Electronics; Digikey Part Number: 2019-RK73B1JTTD561JTR-ND; Supplier Part Number: RK73B1JTTD561J; Parameter 7: *; ComponentLink1Description: Datasheet; ComponentLink1URL: https://www.koaspeer.com/pdfs/RK73B.pdf; Supplier 1: Mouser; Supplier Part Number 1: 660-RK73B1JTTD561J
footprint RK73B1JTTD561J
pins: 1, 2

## TC33X-2-203E
designator R?
20 kOhms 0.1W, 1/10W J Lead Surface Mount Trimmer Potentiometer Cermet 1 Turn Top Adjustment; MF: Bourns; MP: TC33X-2-203E; Value: *; SnapEDA_Link: https://www.snapeda.com/parts/TC33X-2-203E/Bourns/view-part/312812/?ref=snap; Check_prices: https://www.snapeda.com/parts/TC33X-2-203E/Bourns/view-part/312812/?ref=eda; Digi-Key_Part_Number: TC33X-2-203ECT-ND; Purchase-URL: https://pricing.snapeda.com/search/part/TC33X-2-203E/?ref=eda; Package: 1608 Bourns; Supplier 1: Mouser; Supplier Part Number 1: 652-TC33X-2-203E
footprint TRIM_TC33X-2-203E
pins: 1 CCW, 2 W, 3 CW